# EAGLE library part NRF51822_MODULE (library altro)
Core nRF51822 Module - 36 Pins 2.0 mm Pitch
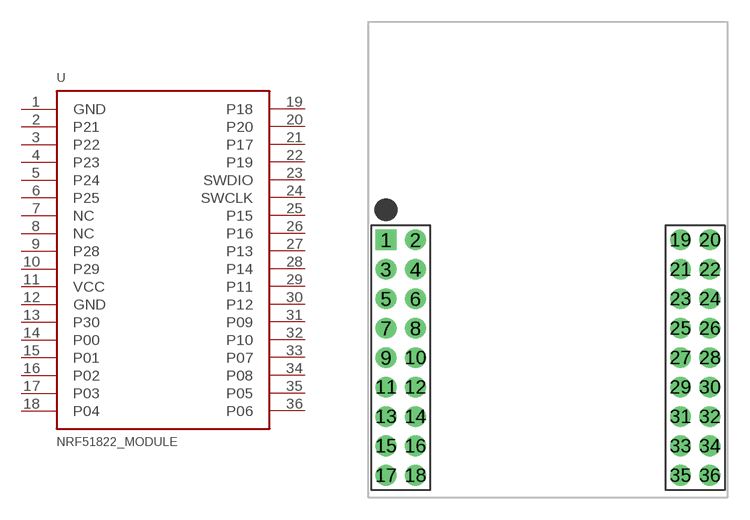
[diagram p1: symbol with the pads of NRF51822_MODULE; footprint NRF51822_MODULE]

Designator prefix U

## NRF51822_MODULE  [NRF51822_MODULE]
1  GND
2  P21
3  P22
4  P23
5  P24
6  P25
7  NC
8  NC
9  P28
10  P29
11  VCC
12  GND
13  P30
14  P00
15  P01
16  P02
17  P03
18  P04
19  P18
20  P20
21  P17
22  P19
23  SWDIO
24  SWCLK
25  P15
26  P16
27  P13
28  P14
29  P11
30  P12
31  P09
32  P10
33  P07
34  P08
35  P05
36  P06

## Footprint NRF51822_MODULE (pad centres in mm)
drill 0.9 pad 1.27 square: 1 -11,1.35
drill 0.9: 2 -9,1.35; 3 -11,-0.65; 4 -9,-0.65; 5 -11,-2.65; 6 -9,-2.65; 7 -11,-4.65; 8 -9,-4.65; 9 -11,-6.65; 10 -9,-6.65; 11 -11,-8.65; 12 -9,-8.65; 13 -11,-10.65; 14 -9,-10.65; 15 -11,-12.65; 16 -9,-12.65; 17 -11,-14.65; 18 -9,-14.65; 19 9,1.35; 20 11,1.35; 21 9,-0.65; 22 11,-0.65; 23 9,-2.65; 24 11,-2.65; 25 9,-4.65; 26 11,-4.65; 27 9,-6.65; 28 11,-6.65; 29 9,-8.65; 30 11,-8.65; 31 9,-10.65; 32 11,-10.65; 33 9,-12.65; 34 11,-12.65; 35 9,-14.65; 36 11,-14.65